# Altium footprint library SOD323_Schottky Diode.PcbLib: 1 footprints
Each footprint in its own frame and in the unit in brackets; x right, y up, seen from the top. Pads: shape width x height; smd on the part's side, far side on the other; paste and mask are expansions set on the pad; w line width, h text height; cw(c..) or ccw(c..) is an arc to the next point about the centre after c.
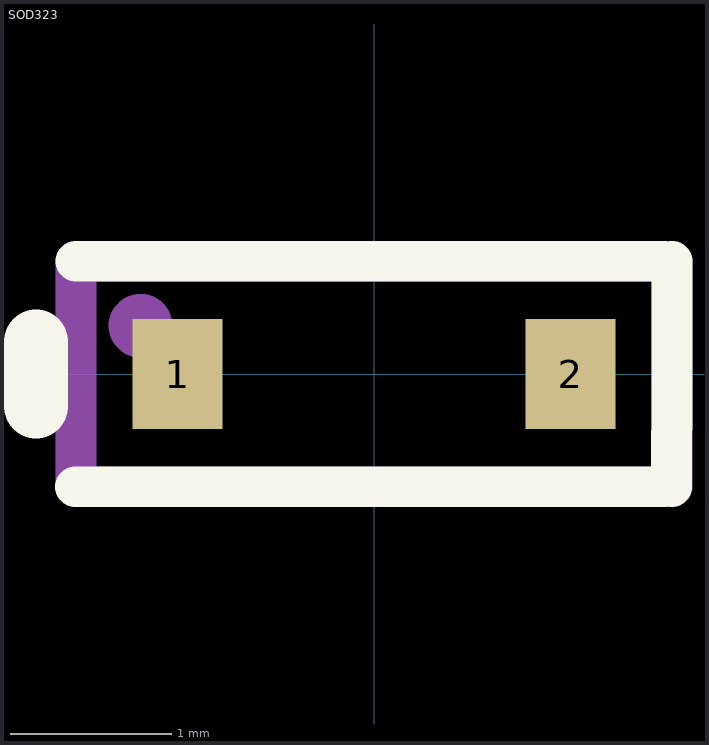
[diagram p0: the footprint, top view; thin cyan lines are the x and y axes]

## SOD323 [mil]
pads (2):
  rect 22x27 smd: 1(-48,0) 2(48,0)
Top Overlay:
  lines w10: -73,-27.56 70.87,-27.56 ; -72.83,27.56 70.87,27.56 ; 72.67,-27.56 72.83,0 72.83,27.56
  lines w15.75: -82.68,-7.87 -82.68,7.87
Mechanical 2:
  circle w10: c-57.09,11.81 r2.78
  lines w10: -72.83,-27.56 -72.83,27.56 72.83,27.56 72.83,-27.56 -72.83,-27.56
3D body "User Library-SOD323.step": height 35.43, standoff -3.54, extent -49.21,-23.62 49.21,25.59